# Altium schematic symbol library CAP_SMD_CAN.SchLib: 1 symbol
Pins are listed as number, name and electrical type; pins without a type are passive.

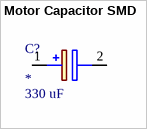
[diagram p0: symbol Motor Capacitor SMD]

## Motor Capacitor SMD
designator C?  value 330 uF
Capacitor Polarised; Digi-Key_Part_Number: PCE4429CT-ND; ComponentLink1Description: Digi-Key_Purchase_URL; ComponentLink1URL: https://www.digikey.com/en/products/detail/panasonic-electronic-components/EEE-FK1V331AP/1142089; ComponentLink2Description: Datasheet_Link; ComponentLink2URL: http://industrial.panasonic.com/www-cgi/jvcr13pz.cgi?E+PZ+3+ABA0088+EEEFK1V331AP+7+WW
footprint CAP_SMD_CAN
pins: 1 +, 2 -